# Altium schematic symbol library SCH.SchLib: 386 symbols (part 3 of 3)
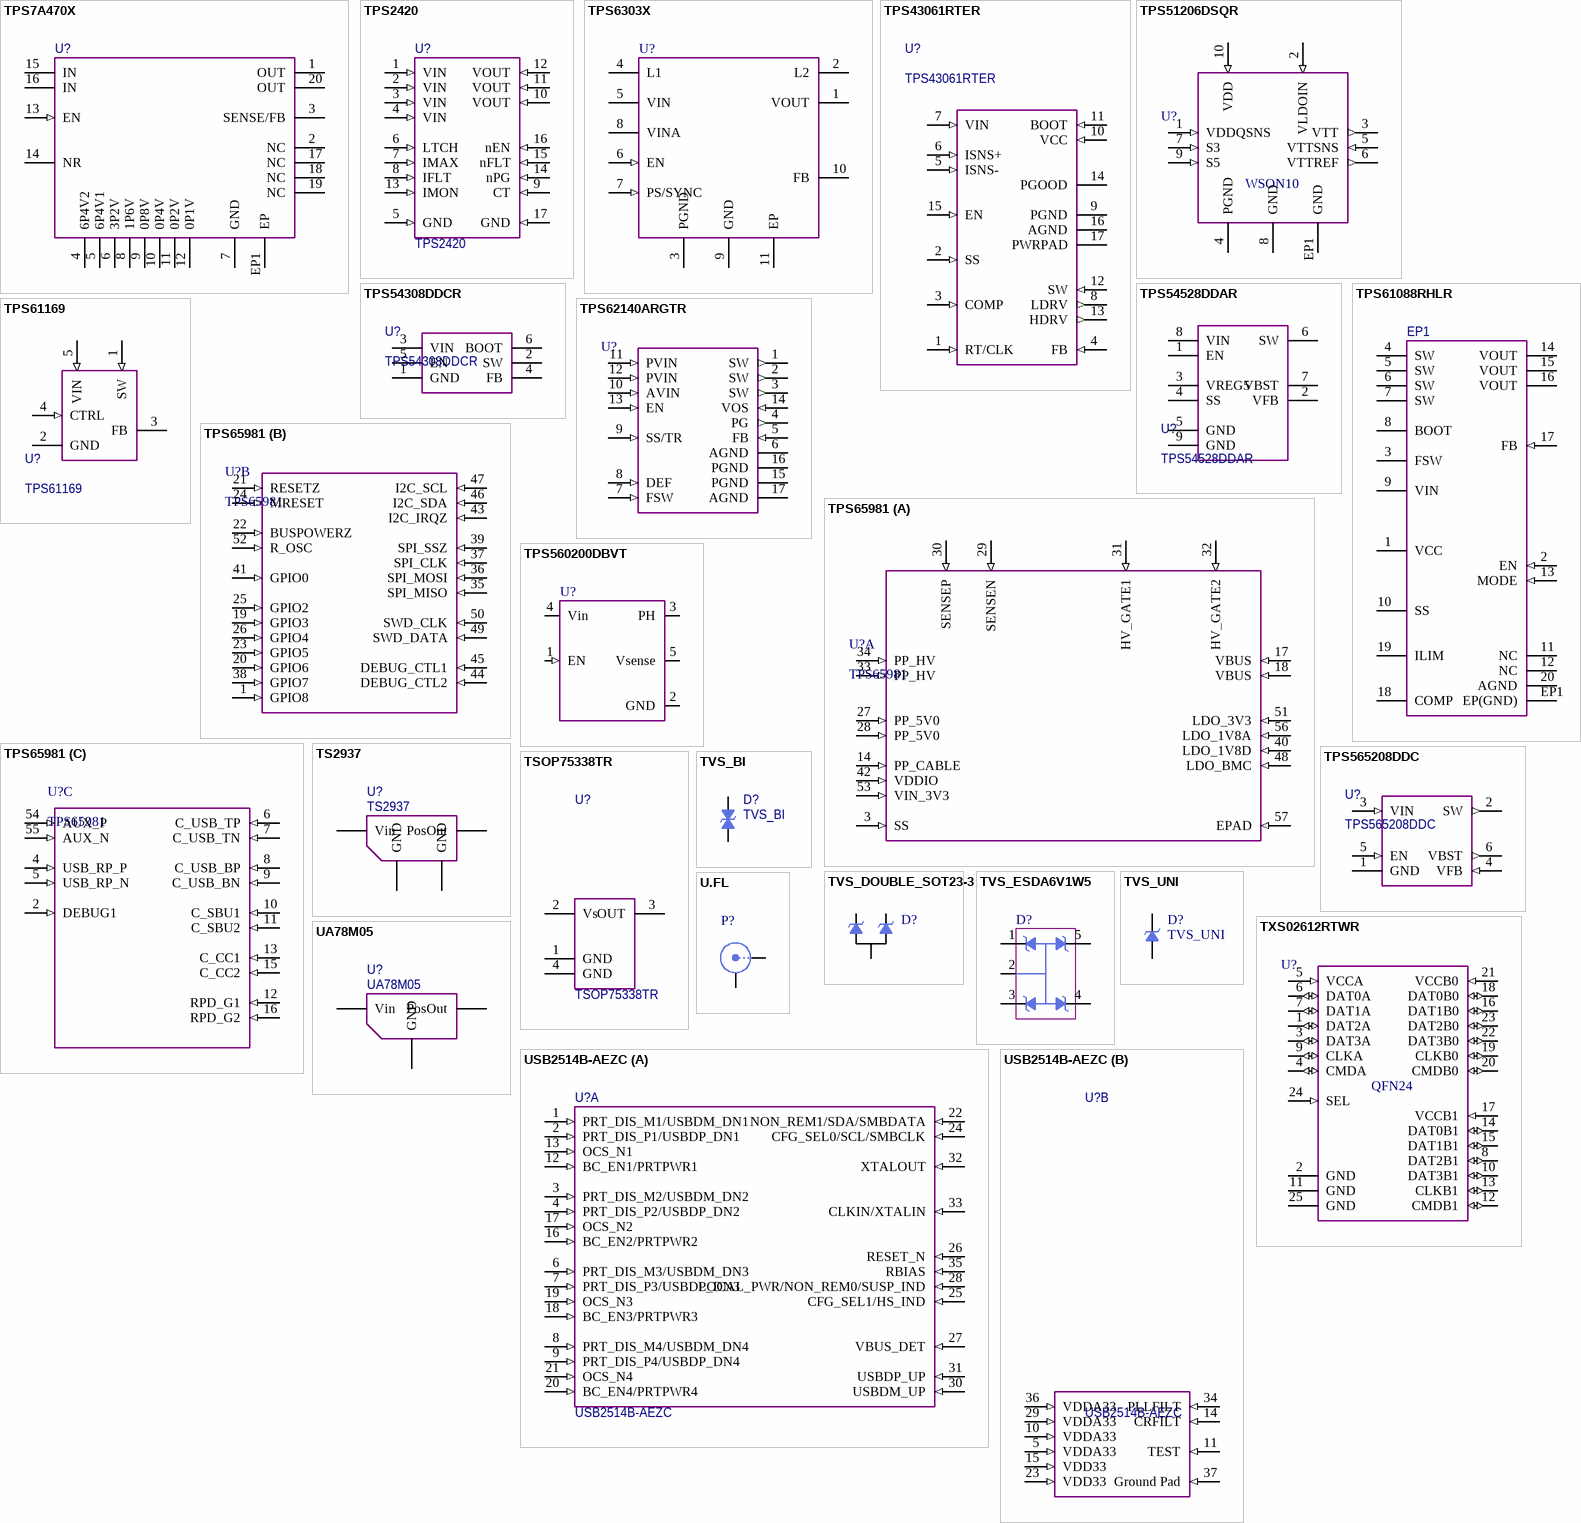
[diagram p16: symbols TPS7A470X to USB2514B-AEZC]

## TPS61169
designator U?
pins: 1 SW (in), 2 GND (power), 3 FB, 4 CTRL (in), 5 VIN (in)

## TPS62140ARGTR
designator U?  (value not drawn)
pins: 1 SW (out), 2 SW (out), 3 SW (out), 4 PG (out), 5 FB (in), 6 AGND, 7 FSW (in), 8 DEF (in), 9 SS/TR (in), 10 AVIN (in), 11 PVIN (in), 12 PVIN (in), 13 EN (in), 14 VOS (in), 15 PGND (power), 16 PGND (power), 17 AGND (power)

## TPS65981
designator U?
part A pins: 3 SS (in), 14 PP_CABLE (in), 17 VBUS (in), 18 VBUS (in), 27 PP_5V0 (in), 28 PP_5V0 (in), 29 SENSEN (in), 30 SENSEP (in), 31 HV_GATE1 (in), 32 HV_GATE2 (in), 33 PP_HV (in), 34 PP_HV (in), 40 LDO_1V8D (in), 42 VDDIO (in), 48 LDO_BMC (in), 51 LDO_3V3 (in), 53 VIN_3V3 (in), 56 LDO_1V8A (in), 57 EPAD (in)
part B pins: 1 GPIO8 (in), 19 GPIO3 (in), 20 GPIO6 (in), 21 RESETZ (in), 22 BUSPOWERZ (in), 23 GPIO5 (in), 24 MRESET (in), 25 GPIO2 (in), 26 GPIO4 (in), 35 SPI_MISO (in), 36 SPI_MOSI (in), 37 SPI_CLK (in), 38 GPIO7 (in), 39 SPI_SSZ (in), 41 GPIO0 (in), 43 I2C_IRQZ (in), 44 DEBUG_CTL2 (in), 45 DEBUG_CTL1 (in), 46 I2C_SDA (in), 47 I2C_SCL (in), 49 SWD_DATA (in), 50 SWD_CLK (in), 52 R_OSC (in)
part C pins: 2 DEBUG1 (in), 4 USB_RP_P (in), 5 USB_RP_N (in), 6 C_USB_TP (in), 7 C_USB_TN (in), 8 C_USB_BP (in), 9 C_USB_BN (in), 10 C_SBU1 (in), 11 C_SBU2 (in), 12 RPD_G1 (in), 13 C_CC1 (in), 15 C_CC2 (in), 16 RPD_G2 (in), 54 AUX_P (in), 55 AUX_N (in)

## TPS560200DBVT
designator U?  (value not drawn)
pins: 1 EN (in), 2 GND (power), 3 PH, 4 Vin (power), 5 Vsense

## TPS565208DDC
designator U?
pins: 1 GND (power) "Ground pin. Source terminal of low-side power NFET as well as the ground terminal for", 2 SW (out) "Switch node connection between high-side NFET and low-side NFET.", 3 VIN (in) "Input voltage supply pin. The drain terminal of high-side power NFET.", 4 VFB (in) "Converter feedback input. Connect to output voltage with feedback resistor divider.", 5 EN (in) "Enable input control. Active high and must be pulled up to enable the device.", 6 VBST (out) "Supply input for the high-side NFET gate drive circuit. Connect 0.1 µF capacitor between"

## TS2937
designator U?
pins: 1 Vin, 2 GND, 3 PosOut, 4 GND

## TSOP75338TR
designator U?
pins: 1 GND, 2 Vs, 3 OUT, 4 GND

## TVS_BI
designator D?
SCH_Footprint: *
pins: 1 C, 2 C

## TVS_DOUBLE_SOT23-3
designator D?  (value not drawn)
pins: 1 100, 2, 3

## TVS_ESDA6V1W5
designator D?  (value not drawn)
pins: 1, 2, 3, 4, 5

## TVS_UNI
designator D?
pins: 1 C, 2 C

## TXS02612RTWR
designator U?  SCH_Footprint: QFN24  (hidden comment: TXS02612RTWR)
pins: 1 DAT2A (io), 2 GND (power), 3 DAT3A (io), 4 CMDA (io), 5 VCCA (in), 6 DAT0A (io), 7 DAT1A (io), 8 DAT2B1 (io), 9 CLKA (io), 10 DAT3B1 (io), 11 GND (power), 12 CMDB1 (io), 13 CLKB1 (io), 14 DAT0B1 (io), 15 DAT1B1 (io), 16 DAT1B0 (io), 17 VCCB1 (in), 18 DAT0B0 (io), 19 CLKB0 (io), 20 CMDB0 (io), 21 VCCB0 (in), 22 DAT3B0 (io), 23 DAT2B0 (io), 24 SEL (in), 25 GND (power)

## U.FL
designator P?  (value not drawn)
U.FL connector
pins: 1 X, 2 Y

## UA78M05
designator U?
pins: 1 Vin, 3 PosOut, 4 GND

## USB2514B-AEZC
designator U?
part A pins: 1 PRT_DIS_M1/USBDM_DN1 (in), 2 PRT_DIS_P1/USBDP_DN1 (in), 3 PRT_DIS_M2/USBDM_DN2 (in), 4 PRT_DIS_P2/USBDP_DN2 (in), 6 PRT_DIS_M3/USBDM_DN3 (in), 7 PRT_DIS_P3/USBDP_DN3 (in), 8 PRT_DIS_M4/USBDM_DN4 (in), 9 PRT_DIS_P4/USBDP_DN4 (in), 12 BC_EN1/PRTPWR1 (in), 13 OCS_N1 (in), 16 BC_EN2/PRTPWR2 (in), 17 OCS_N2 (in), 18 BC_EN3/PRTPWR3 (in), 19 OCS_N3 (in), 20 BC_EN4/PRTPWR4 (in), 21 OCS_N4 (in), 22 NON_REM1/SDA/SMBDATA (in), 24 CFG_SEL0/SCL/SMBCLK (in), 25 CFG_SEL1/HS_IND (in), 26 RESET_N (in), 27 VBUS_DET (in), 28 LOCAL_PWR/NON_REM0/SUSP_IND (in), 30 USBDM_UP (in), 31 USBDP_UP (in), 32 XTALOUT (in), 33 CLKIN/XTALIN (in), 35 RBIAS (in)
part B pins: 5 VDDA33 (in), 10 VDDA33 (in), 11 TEST (in), 14 CRFILT (in), 15 VDD33 (in), 23 VDD33 (in), 29 VDDA33 (in), 34 PLLFILT (in), 36 VDDA33 (in), 37 Ground Pad (in)

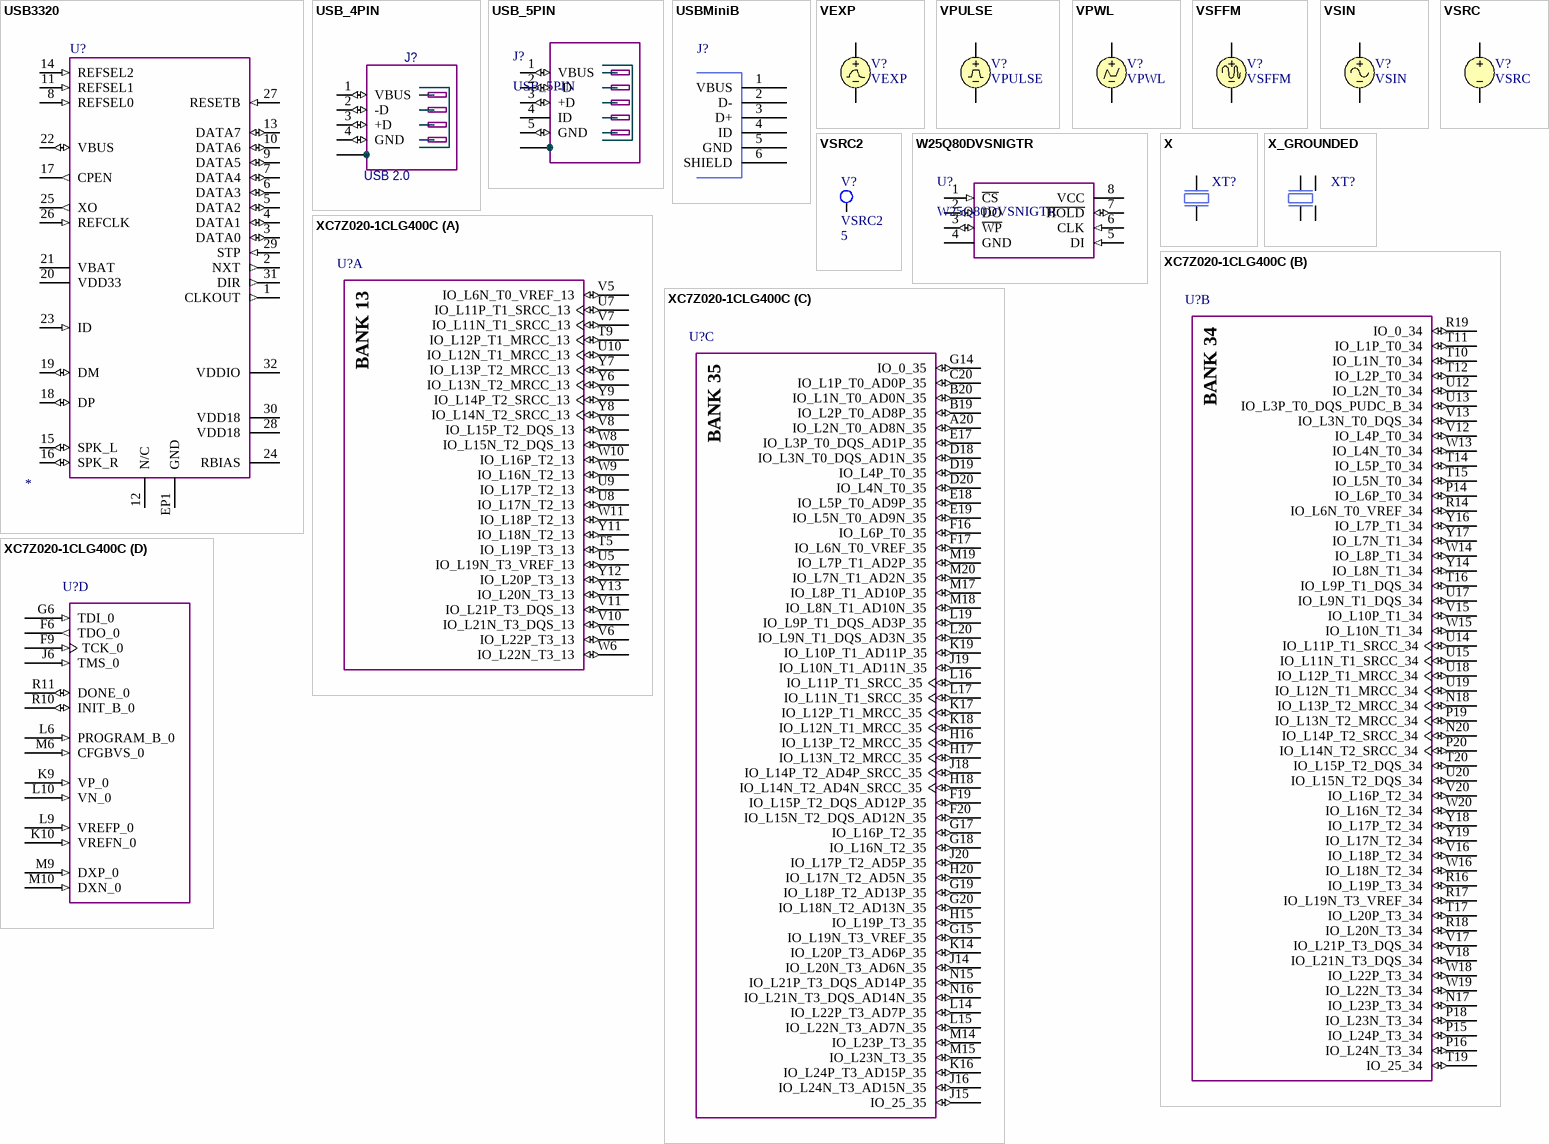
[diagram p13: symbols USB3320 to XC7Z020-1CLG400C]

## USB3320
designator U?  (value not drawn)
SCH_Footprint: *
pins: 1 CLKOUT (out), 2 NXT (out), 3 DATA0 (io), 4 DATA1 (io), 5 DATA2 (io), 6 DATA3 (io), 7 DATA4 (io), 8 REFSEL0 (in), 9 DATA5 (io), 10 DATA6 (io), 11 REFSEL1 (in), 12 N/C, 13 DATA7 (io), 14 REFSEL2 (in), 15 SPK_L (io), 16 SPK_R (io), 17 CPEN (out), 18 DP (io), 19 DM (io), 20 VDD33 (power), 21 VBAT (power), 22 VBUS (io), 23 ID (in), 24 RBIAS, 25 XO (out), 26 REFCLK (in), 27 RESETB (in), 28 VDD18 (power), 29 STP (in), 30 VDD18 (power), 31 DIR (out), 32 VDDIO (power), EP1 GND (power)
2 alternate drawings of the same symbol

## USB_4PIN
designator J?  Family: USB 2.0  (hidden comment: USB_4PIN)
Part Number: WURTH_629104190121; Part Description: USB 2.0 Type A Horizontal SMT Short Type; Manufacturer: WURTH ELEKTRONIK; Manufacturer Part Number: 629104190121; Table: WURTH; Component Kind: Standard; Component Type: Standard; Footprint: WURTH_629104190121; Pin Count: 5; Mounted: Yes; Socket: No; SMD: Yes; Status: None; ComponentHeight: 6.3mm; Author: Yuri; CreateDate: 05-04-2018; LatestRevisionDate: 05-04-2018
pins: 1 VBUS (io), 2 -D (io), 3 +D (io), 4 GND (io), 5 SHIELD (power)

## USB_5PIN
designator J?
pins: 1 VBUS (io), 2 -D (io), 3 +D (io), 4 ID, 5 GND (io), 6 SH (power)

## USBMiniB
designator J?  (value not drawn)
Złącze USB, Mini USB typu B, USB 2.0 OTG, Montaż przewlekany
pins: 1 VBUS, 2 D-, 3 D+, 4 ID, 5 GND, 6 SHIELD

## VEXP
designator V?
Exponential Voltage Source; Note: PCB Footprint - Not required; Published: 8-Jun-2000; LatestRevisionDate: 15-Nov-2004; LatestRevisionNote: Corrected Netlist.; PackageReference: Not Applicable; Publisher: Altium Limited
simulation model VEXP
pins: 1, 2

## VPULSE
designator V?
Pulse Voltage Source; Note: PCB Footprint - Not required; Published: 8-Jun-2000; LatestRevisionDate: 15-Nov-2004; LatestRevisionNote: Corrected Netlist.; PackageReference: Not Applicable; Publisher: Altium Limited
simulation model VPULSE
pins: 1, 2

## VPWL
designator V?
Piecewise Linear Voltage Source; Note: PCB Footprint - Not required; Sim Note: To add model file containing time-current pairs of values, enter model location under "General Tab" in "Full Path" box.; Published: 8-Jun-2000; LatestRevisionDate: 17-Jul-2002; LatestRevisionNote: Re-released for DXP Platform.; PackageReference: Not Applicable; Publisher: Altium Limited
simulation model VPWL
pins: 1, 2

## VSFFM
designator V?
Frequency-Modulated Sinusoidal Voltage Source; Note: PCB Footprint - Not required; Published: 8-Jun-2000; LatestRevisionDate: 17-Jul-2002; LatestRevisionNote: Re-released for DXP Platform.; PackageReference: Not Applicable; Publisher: Altium Limited
simulation model VSFFM
pins: 1, 2

## VSIN
designator V?
Sinusoidal Voltage Source; Note: PCB Footprint - Not required; Published: 8-Jun-2000; LatestRevisionDate: 15-Nov-2004; LatestRevisionNote: Corrected Netlist.; PackageReference: Not Applicable; Publisher: Altium Limited
simulation model VSIN
pins: 1, 2

## VSRC
designator V?
Voltage Source; Note: PCB Footprint - Not required; Published: 8-Jun-2000; LatestRevisionDate: 17-Jul-2002; LatestRevisionNote: Re-released for DXP Platform.; PackageReference: Not Applicable; Publisher: Altium Limited
simulation model VSRC
pins: 1, 2

## VSRC2
designator V?  value 5
Voltage Source; Note: PCB Footprint - Not required; Published: 8-Jun-2000; LatestRevisionDate: 17-Jul-2002; LatestRevisionNote: Re-released for DXP Platform.; PackageReference: Not Applicable; Publisher: Altium Limited
simulation model VSRC
pins: 1

## W25Q80DVSNIGTR
designator U?
pins: 1 ~{CS} (in), 2 DO (io), 3 ~{WP} (io), 4 GND (power), 5 DI (in), 6 CLK (in), 7 ~{HOLD} (io), 8 VCC (power)

## X
designator XT?  (value not drawn)
Resonator Ceramic
pins: 1 inp, 2 out

## X_GROUNDED
designator XT?  (value not drawn)
Resonator Ceramic
pins: 1 IN, 2 GND, 3 OUT, 4 GND

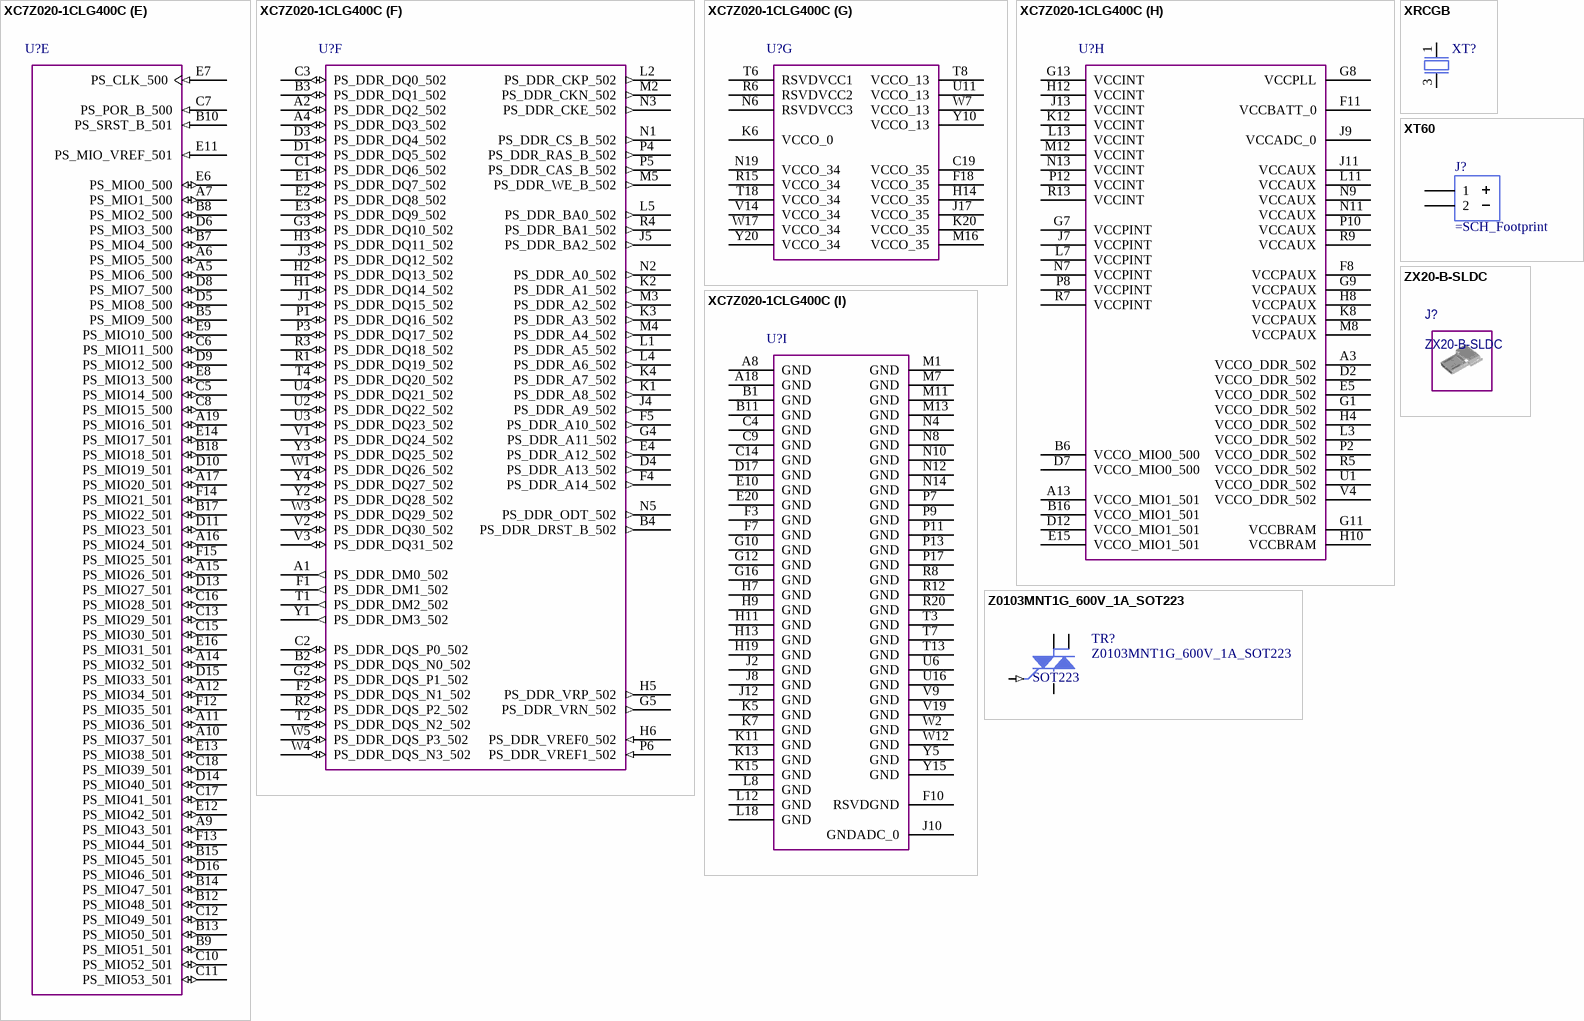
[diagram p14: symbols XC7Z020-1CLG400C to ZX20-B-SLDC]

## XC7Z020-1CLG400C
designator U?  (value not drawn)
667 MHz Zynq™-7000 AP SoC, 130 PS I/O, 125 FPGA I/O, 400-Ball BGA, Speed Grade 1, Commercial Grade, Pb-Free; Manufacturer: Xilinx; Extensible Block RAM (# 36Kb Blocks): 560 KB (140); Flip Flops: 106400; LUTs: 53200; Speed Grade: -1; DatasheetVersion: v1.2; PackageVersion: Rev 1.1; PackageReference: CLG400; PackageDescription: Wire-Bond Chip-Scale BGA, Body 17 x 17 mm, 0.8 mm Pitch; Generic Part Number: XC7Z020; RoHS: Pb-Free; Mounting Technology: Surface Mount; Code_JEDEC: MO-275-MMAA-1; PartNumber: XC7Z020-1CLG400C; ComponentLink1Description: Datasheet; ComponentLink1URL: http://www.xilinx.com/support/documentation/data_sheets/ds190-Zynq-7000-Overview.pdf; ComponentLink2Description: Package Specification; ComponentLink2URL: http://www.xilinx.com/support/documentation/user_guides/ug865-Zynq-7000-Pkg-Pinout.pdf; ComponentLink3Description: DC and AC Switching Characteristics; ComponentLink3URL: http://www.xilinx.com/support/documentation/data_sheets/ds187-XC7Z010-XC7Z020-Data-Sheet.pdf; ComponentLink4Description: Package File; ComponentLink4URL: http://www.xilinx.com/support/packagefiles/z7packages/xc7z020clg400pkg.txt; ComponentLink5Description: Packaging and Pinout; ComponentLink5URL: http://www.xilinx.com/support/documentation/user_guides/ug865-Zynq-7000-Pkg-Pinout.pdf; ComponentLink6Description: PCB and Layout Guide; ComponentLink6URL: http://www.xilinx.com/support/documentation/user_guides/ug483_7Series_PCB.pdf
footprint CLG400 (BGA, 400-Balls, Body 17x17mm, Pitch 0.8mm)
part A pins: T5 IO_L19P_T3_13 (io), T9 IO_L12P_T1_MRCC_13 (io), U5 IO_L19N_T3_VREF_13 (io), U7 IO_L11P_T1_SRCC_13 (io), U8 IO_L17N_T2_13 (io), U9 IO_L17P_T2_13 (io), U10 IO_L12N_T1_MRCC_13 (io), V5 IO_L6N_T0_VREF_13 (io), V6 IO_L22P_T3_13 (io), V7 IO_L11N_T1_SRCC_13 (io), V8 IO_L15P_T2_DQS_13 (io), V10 IO_L21N_T3_DQS_13 (io), V11 IO_L21P_T3_DQS_13 (io), W6 IO_L22N_T3_13 (io), W8 IO_L15N_T2_DQS_13 (io), W9 IO_L16N_T2_13 (io), W10 IO_L16P_T2_13 (io), W11 IO_L18P_T2_13 (io), Y6 IO_L13N_T2_MRCC_13 (io), Y7 IO_L13P_T2_MRCC_13 (io), Y8 IO_L14N_T2_SRCC_13 (io), Y9 IO_L14P_T2_SRCC_13 (io), Y11 IO_L18N_T2_13 (io), Y12 IO_L20P_T3_13 (io), Y13 IO_L20N_T3_13 (io)
part B pins: N17 IO_L23P_T3_34 (io), N18 IO_L13P_T2_MRCC_34 (io), N20 IO_L14P_T2_SRCC_34 (io), P14 IO_L6P_T0_34 (io), P15 IO_L24P_T3_34 (io), P16 IO_L24N_T3_34 (io), P18 IO_L23N_T3_34 (io), P19 IO_L13N_T2_MRCC_34 (io), P20 IO_L14N_T2_SRCC_34 (io), R14 IO_L6N_T0_VREF_34 (io), R16 IO_L19P_T3_34 (io), R17 IO_L19N_T3_VREF_34 (io), R18 IO_L20N_T3_34 (io), R19 IO_0_34 (io), T10 IO_L1N_T0_34 (io), T11 IO_L1P_T0_34 (io), T12 IO_L2P_T0_34 (io), T14 IO_L5P_T0_34 (io), T15 IO_L5N_T0_34 (io), T16 IO_L9P_T1_DQS_34 (io), T17 IO_L20P_T3_34 (io), T19 IO_25_34 (io), T20 IO_L15P_T2_DQS_34 (io), U12 IO_L2N_T0_34 (io), U13 IO_L3P_T0_DQS_PUDC_B_34 (io), U14 IO_L11P_T1_SRCC_34 (io), U15 IO_L11N_T1_SRCC_34 (io), U17 IO_L9N_T1_DQS_34 (io), U18 IO_L12P_T1_MRCC_34 (io), U19 IO_L12N_T1_MRCC_34 (io), U20 IO_L15N_T2_DQS_34 (io), V12 IO_L4P_T0_34 (io), V13 IO_L3N_T0_DQS_34 (io), V15 IO_L10P_T1_34 (io), V16 IO_L18P_T2_34 (io), V17 IO_L21P_T3_DQS_34 (io), V18 IO_L21N_T3_DQS_34 (io), V20 IO_L16P_T2_34 (io), W13 IO_L4N_T0_34 (io), W14 IO_L8P_T1_34 (io), W15 IO_L10N_T1_34 (io), W16 IO_L18N_T2_34 (io), W18 IO_L22P_T3_34 (io), W19 IO_L22N_T3_34 (io), W20 IO_L16N_T2_34 (io), Y14 IO_L8N_T1_34 (io), Y16 IO_L7P_T1_34 (io), Y17 IO_L7N_T1_34 (io), Y18 IO_L17P_T2_34 (io), Y19 IO_L17N_T2_34 (io)
part C pins: A20 IO_L2N_T0_AD8N_35 (io), B19 IO_L2P_T0_AD8P_35 (io), B20 IO_L1N_T0_AD0N_35 (io), C20 IO_L1P_T0_AD0P_35 (io), D18 IO_L3N_T0_DQS_AD1N_35 (io), D19 IO_L4P_T0_35 (io), D20 IO_L4N_T0_35 (io), E17 IO_L3P_T0_DQS_AD1P_35 (io), E18 IO_L5P_T0_AD9P_35 (io), E19 IO_L5N_T0_AD9N_35 (io), F16 IO_L6P_T0_35 (io), F17 IO_L6N_T0_VREF_35 (io), F19 IO_L15P_T2_DQS_AD12P_35 (io), F20 IO_L15N_T2_DQS_AD12N_35 (io), G14 IO_0_35 (io), G15 IO_L19N_T3_VREF_35 (io), G17 IO_L16P_T2_35 (io), G18 IO_L16N_T2_35 (io), G19 IO_L18P_T2_AD13P_35 (io), G20 IO_L18N_T2_AD13N_35 (io), H15 IO_L19P_T3_35 (io), H16 IO_L13P_T2_MRCC_35 (io), H17 IO_L13N_T2_MRCC_35 (io), H18 IO_L14N_T2_AD4N_SRCC_35 (io), H20 IO_L17N_T2_AD5N_35 (io), J14 IO_L20N_T3_AD6N_35 (io), J15 IO_25_35 (io), J16 IO_L24N_T3_AD15N_35 (io), J18 IO_L14P_T2_AD4P_SRCC_35 (io), J19 IO_L10N_T1_AD11N_35 (io), J20 IO_L17P_T2_AD5P_35 (io), K14 IO_L20P_T3_AD6P_35 (io), K16 IO_L24P_T3_AD15P_35 (io), K17 IO_L12P_T1_MRCC_35 (io), K18 IO_L12N_T1_MRCC_35 (io), K19 IO_L10P_T1_AD11P_35 (io), L14 IO_L22P_T3_AD7P_35 (io), L15 IO_L22N_T3_AD7N_35 (io), L16 IO_L11P_T1_SRCC_35 (io), L17 IO_L11N_T1_SRCC_35 (io), L19 IO_L9P_T1_DQS_AD3P_35 (io), L20 IO_L9N_T1_DQS_AD3N_35 (io), M14 IO_L23P_T3_35 (io), M15 IO_L23N_T3_35 (io), M17 IO_L8P_T1_AD10P_35 (io), M18 IO_L8N_T1_AD10N_35 (io), M19 IO_L7P_T1_AD2P_35 (io), M20 IO_L7N_T1_AD2N_35 (io), N15 IO_L21P_T3_DQS_AD14P_35 (io), N16 IO_L21N_T3_DQS_AD14N_35 (io)
part D pins: F6 TDO_0 (out), F9 TCK_0 (in), G6 TDI_0 (in), J6 TMS_0 (in), K9 VP_0 (in), K10 VREFN_0 (in), L6 PROGRAM_B_0 (in), L9 VREFP_0 (in), L10 VN_0 (in), M6 CFGBVS_0 (in), M9 DXP_0 (in), M10 DXN_0 (in), R10 INIT_B_0 (io), R11 DONE_0 (io)
part E pins: A5 PS_MIO6_500 (io), A6 PS_MIO5_500 (io), A7 PS_MIO1_500 (io), A9 PS_MIO43_501 (io), A10 PS_MIO37_501 (io), A11 PS_MIO36_501 (io), A12 PS_MIO34_501 (io), A14 PS_MIO32_501 (io), A15 PS_MIO26_501 (io), A16 PS_MIO24_501 (io), A17 PS_MIO20_501 (io), A19 PS_MIO16_501 (io), B5 PS_MIO9_500 (io), B7 PS_MIO4_500 (io), B8 PS_MIO2_500 (io), B9 PS_MIO51_501 (io), B10 PS_SRST_B_501 (in), B12 PS_MIO48_501 (io), B13 PS_MIO50_501 (io), B14 PS_MIO47_501 (io), B15 PS_MIO45_501 (io), B17 PS_MIO22_501 (io), B18 PS_MIO18_501 (io), C5 PS_MIO14_500 (io), C6 PS_MIO11_500 (io), C7 PS_POR_B_500 (in), C8 PS_MIO15_500 (io), C10 PS_MIO52_501 (io), C11 PS_MIO53_501 (io), C12 PS_MIO49_501 (io), C13 PS_MIO29_501 (io), C15 PS_MIO30_501 (io), C16 PS_MIO28_501 (io), C17 PS_MIO41_501 (io), C18 PS_MIO39_501 (io), D5 PS_MIO8_500 (io), D6 PS_MIO3_500 (io), D8 PS_MIO7_500 (io), D9 PS_MIO12_500 (io), D10 PS_MIO19_501 (io), D11 PS_MIO23_501 (io), D13 PS_MIO27_501 (io), D14 PS_MIO40_501 (io), D15 PS_MIO33_501 (io), D16 PS_MIO46_501 (io), E6 PS_MIO0_500 (io), E7 PS_CLK_500 (in), E8 PS_MIO13_500 (io), E9 PS_MIO10_500 (io), E11 PS_MIO_VREF_501 (in), E12 PS_MIO42_501 (io), E13 PS_MIO38_501 (io), E14 PS_MIO17_501 (io), E16 PS_MIO31_501 (io), F12 PS_MIO35_501 (io), F13 PS_MIO44_501 (io), F14 PS_MIO21_501 (io), F15 PS_MIO25_501 (io)
part F pins: A1 PS_DDR_DM0_502 (out), A2 PS_DDR_DQ2_502 (io), A4 PS_DDR_DQ3_502 (io), B2 PS_DDR_DQS_N0_502 (io), B3 PS_DDR_DQ1_502 (io), B4 PS_DDR_DRST_B_502 (out), C1 PS_DDR_DQ6_502 (io), C2 PS_DDR_DQS_P0_502 (io), C3 PS_DDR_DQ0_502 (io), D1 PS_DDR_DQ5_502 (io), D3 PS_DDR_DQ4_502 (io), D4 PS_DDR_A13_502 (out), E1 PS_DDR_DQ7_502 (io), E2 PS_DDR_DQ8_502 (io), E3 PS_DDR_DQ9_502 (io), E4 PS_DDR_A12_502 (out), F1 PS_DDR_DM1_502 (out), F2 PS_DDR_DQS_N1_502 (io), F4 PS_DDR_A14_502 (out), F5 PS_DDR_A10_502 (out), G2 PS_DDR_DQS_P1_502 (io), G3 PS_DDR_DQ10_502 (io), G4 PS_DDR_A11_502 (out), G5 PS_DDR_VRN_502 (out), H1 PS_DDR_DQ14_502 (io), H2 PS_DDR_DQ13_502 (io), H3 PS_DDR_DQ11_502 (io), H5 PS_DDR_VRP_502 (out), H6 PS_DDR_VREF0_502 (in), J1 PS_DDR_DQ15_502 (io), J3 PS_DDR_DQ12_502 (io), J4 PS_DDR_A9_502 (out), J5 PS_DDR_BA2_502 (out), K1 PS_DDR_A8_502 (out), K2 PS_DDR_A1_502 (out), K3 PS_DDR_A3_502 (out), K4 PS_DDR_A7_502 (out), L1 PS_DDR_A5_502 (out), L2 PS_DDR_CKP_502 (out), L4 PS_DDR_A6_502 (out), L5 PS_DDR_BA0_502 (out), M2 PS_DDR_CKN_502 (out), M3 PS_DDR_A2_502 (out), M4 PS_DDR_A4_502 (out), M5 PS_DDR_WE_B_502 (out), N1 PS_DDR_CS_B_502 (out), N2 PS_DDR_A0_502 (out), N3 PS_DDR_CKE_502 (out), N5 PS_DDR_ODT_502 (out), P1 PS_DDR_DQ16_502 (io), P3 PS_DDR_DQ17_502 (io), P4 PS_DDR_RAS_B_502 (out), P5 PS_DDR_CAS_B_502 (out), P6 PS_DDR_VREF1_502 (in), R1 PS_DDR_DQ19_502 (io), R2 PS_DDR_DQS_P2_502 (io), R3 PS_DDR_DQ18_502 (io), R4 PS_DDR_BA1_502 (out), T1 PS_DDR_DM2_502 (out), T2 PS_DDR_DQS_N2_502 (io), T4 PS_DDR_DQ20_502 (io), U2 PS_DDR_DQ22_502 (io), U3 PS_DDR_DQ23_502 (io), U4 PS_DDR_DQ21_502 (io), V1 PS_DDR_DQ24_502 (io), V2 PS_DDR_DQ30_502 (io), V3 PS_DDR_DQ31_502 (io), W1 PS_DDR_DQ26_502 (io), W3 PS_DDR_DQ29_502 (io), W4 PS_DDR_DQS_N3_502 (io), W5 PS_DDR_DQS_P3_502 (io), Y1 PS_DDR_DM3_502 (out), Y2 PS_DDR_DQ28_502 (io), Y3 PS_DDR_DQ25_502 (io), Y4 PS_DDR_DQ27_502 (io)
part G pins: C19 VCCO_35 (power), F18 VCCO_35 (power), H14 VCCO_35 (power), J17 VCCO_35 (power), K6 VCCO_0 (power), K20 VCCO_35 (power), M16 VCCO_35 (power), N6 RSVDVCC3 (power), N19 VCCO_34 (power), R6 RSVDVCC2 (power), R15 VCCO_34 (power), T6 RSVDVCC1 (power), T8 VCCO_13 (power), T18 VCCO_34 (power), U11 VCCO_13 (power), V14 VCCO_34 (power), W7 VCCO_13 (power), W17 VCCO_34 (power), Y10 VCCO_13 (power), Y20 VCCO_34 (power)
part H pins: A3 VCCO_DDR_502 (power), A13 VCCO_MIO1_501 (power), B6 VCCO_MIO0_500 (power), B16 VCCO_MIO1_501 (power), D2 VCCO_DDR_502 (power), D7 VCCO_MIO0_500 (power), D12 VCCO_MIO1_501 (power), E5 VCCO_DDR_502 (power), E15 VCCO_MIO1_501 (power), F8 VCCPAUX (power), F11 VCCBATT_0 (power), G1 VCCO_DDR_502 (power), G7 VCCPINT (power), G8 VCCPLL (power), G9 VCCPAUX (power), G11 VCCBRAM (power), G13 VCCINT (power), H4 VCCO_DDR_502 (power), H8 VCCPAUX (power), H10 VCCBRAM (power), H12 VCCINT (power), J7 VCCPINT (power), J9 VCCADC_0 (power), J11 VCCAUX (power), J13 VCCINT (power), K8 VCCPAUX (power), K12 VCCINT (power), L3 VCCO_DDR_502 (power), L7 VCCPINT (power), L11 VCCAUX (power), L13 VCCINT (power), M8 VCCPAUX (power), M12 VCCINT (power), N7 VCCPINT (power), N9 VCCAUX (power), N11 VCCAUX (power), N13 VCCINT (power), P2 VCCO_DDR_502 (power), P8 VCCPINT (power), P10 VCCAUX (power), P12 VCCINT (power), R5 VCCO_DDR_502 (power), R7 VCCPINT (power), R9 VCCAUX (power), R13 VCCINT (power), U1 VCCO_DDR_502 (power), V4 VCCO_DDR_502 (power)
part I pins: A8 GND (power), A18 GND (power), B1 GND (power), B11 GND (power), C4 GND (power), C9 GND (power), C14 GND (power), D17 GND (power), E10 GND (power), E20 GND (power), F3 GND (power), F7 GND (power), F10 RSVDGND (power), G10 GND (power), G12 GND (power), G16 GND (power), H7 GND (power), H9 GND (power), H11 GND (power), H13 GND (power), H19 GND (power), J2 GND (power), J8 GND (power), J10 GNDADC_0 (power), J12 GND (power), K5 GND (power), K7 GND (power), K11 GND (power), K13 GND (power), K15 GND (power), L8 GND (power), L12 GND (power), L18 GND (power), M1 GND (power), M7 GND (power), M11 GND (power), M13 GND (power), N4 GND (power), N8 GND (power), N10 GND (power), N12 GND (power), N14 GND (power), P7 GND (power), P9 GND (power), P11 GND (power), P13 GND (power), P17 GND (power), R8 GND (power), R12 GND (power), R20 GND (power), T3 GND (power), T7 GND (power), T13 GND (power), U6 GND (power), U16 GND (power), V9 GND (power), V19 GND (power), W2 GND (power), W12 GND (power), Y5 GND (power), Y15 GND (power)
part A text: BANK 13
part B text: BANK 34
part C text: BANK 35

## XRCGB
designator XT?  (value not drawn)
XRCGB Ceramic Resonator
pins: 1 out, 3 inp

## XT60
designator J?  (value not drawn)
XT60 connector
pins: 1, 2

## Z0103MNT1G_600V_1A_SOT223
designator TR?  SCH_Footprint: SOT223
pins: 1 T1, 2 T2, 3 G (in), 4 T2
2 alternate drawings of the same symbol

## ZX20-B-SLDC
designator J?